# Altium schematic symbol library NCP699SN18.SchLib: 1 symbol
Pins are listed as number, name and electrical type; pins without a type are passive.

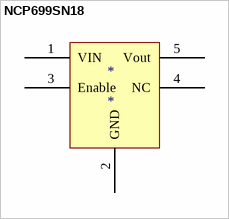
[diagram p0: symbol NCP699SN18]

## NCP699SN18
designator *
footprint SOT23-5AL_MOD(1-07) (SOT23, 5-Leads, Body 2.9x1.6mm, Pitch 0.95mm, Lead Span 2.8mm, IPC High Density)
pins: 1 VIN (power), 2 GND (power), 3 Enable, 4 NC, 5 Vout